# Altium footprint library P2-Adapter_ver1.PcbLib: 42 footprints (part 3 of 3)
Each footprint in its own frame and in the unit in brackets; x right, y up, seen from the top. Pads: shape width x height; smd on the part's side, far side on the other; paste and mask are expansions set on the pad; w line width, h text height; cw(c..) or ccw(c..) is an arc to the next point about the centre after c.
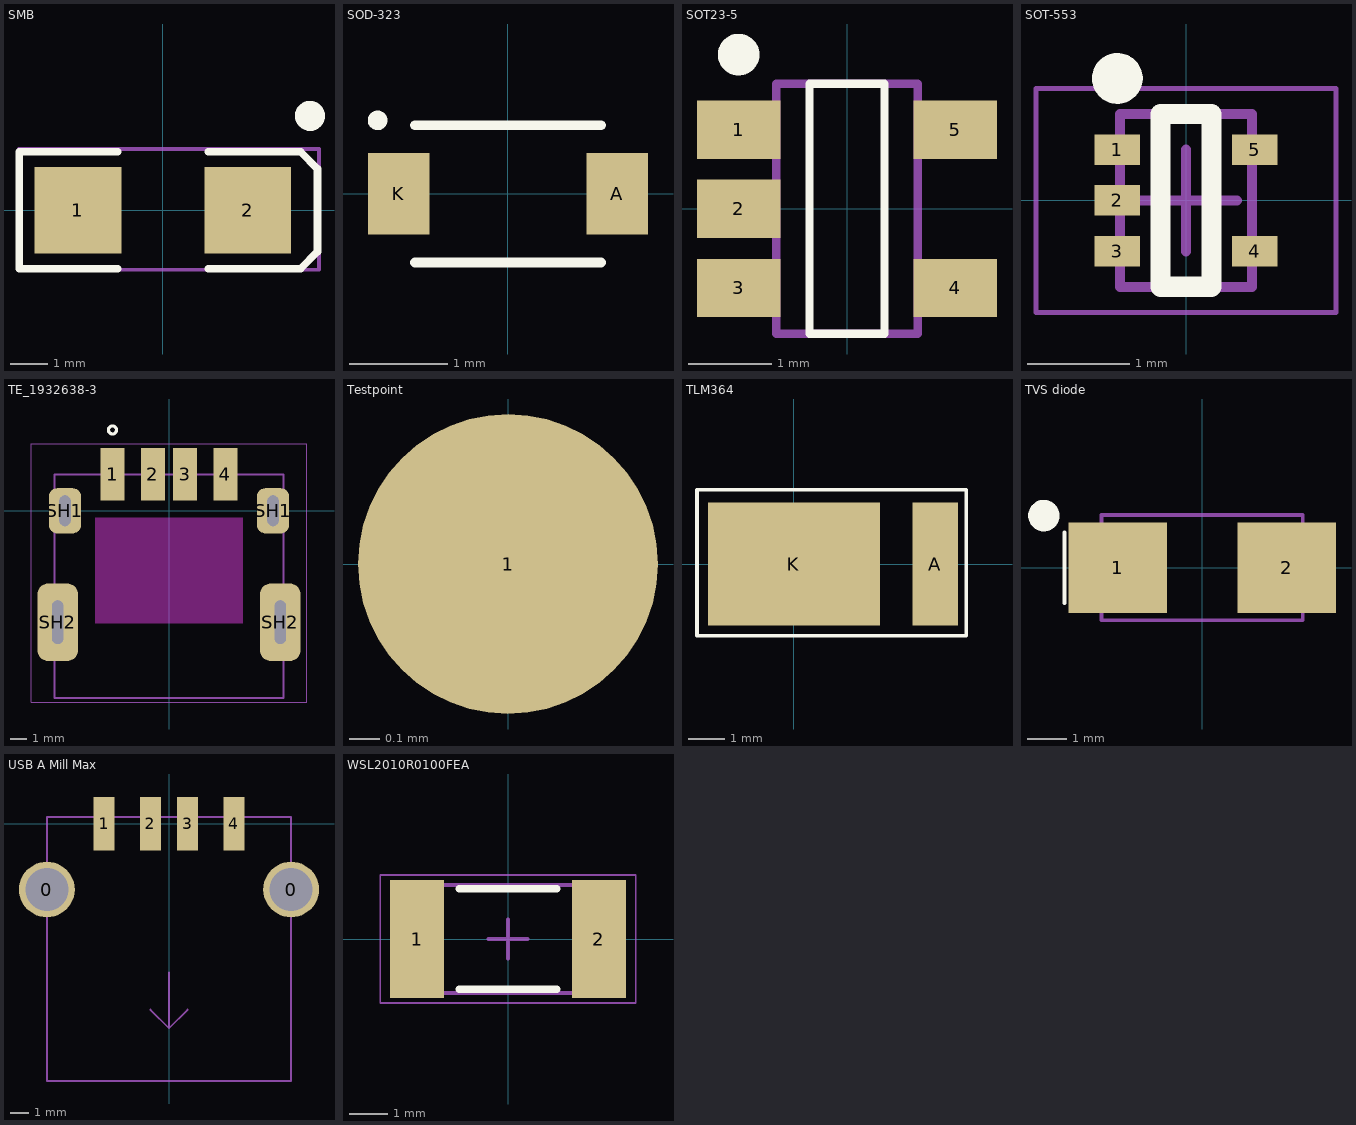
[diagram p2: the footprints below, top view; thin cyan lines are the x and y axes]

## SMB [mm] "DO-214-AA/SMB; 2 C-Bend Leads; Body 5.3 x 3.6 mm, inc. leads (LxW)"
height 2.54
pads (2):
  rect 2.3x2.3 smd: 1(-2.25,0) 2(2.25,0)
Top Overlay:
  circle w0.4: c3.9,2.5 r0.2
  lines w0.2: -1.2,-1.55 -3.8,-1.55 -3.8,1.55 -1.2,1.55 ; 1.2,-1.55 3.65,-1.55 4.1,-1.1 4.1,1.1 3.65,1.55 1.2,1.55
Mechanical 15:
  lines w0.1: -3.81,-1.549 -3.785,-1.575 4.14,-1.575 4.14,1.626 -3.81,1.626 -3.81,-1.549
3D body: height 2.54, standoff 0, extent -3.86,-1.625 4.19,1.676

## SOD-323 [mm]
height 1
pads (2):
  rect 0.63x0.83 smd: A(1.115,0) K(-1.115,0)
Top Overlay:
  circle w0.1: c-1.33,0.75 r0.05
  lines w0.1: -0.95,-0.7 0.95,-0.7 ; -0.95,0.7 0.95,0.7
3D body: height 1, standoff 0, extent -0.9,-0.675 0.9,0.675

## SOT23-5 [mm]
height 1.4
pads (5):
  rect 1x0.7 smd: 1(-1.3,0.95) 2(-1.3,0) 3(-1.3,-0.95) 4(1.3,-0.95) 5(1.3,0.95)
Top Overlay:
  circle w0.25: c-1.3,1.85 r0.125
  lines w0.1: -0.45,-1.5 -0.45,1.5 0.45,1.5 0.45,-1.5 -0.45,-1.5
Mechanical 15:
  lines w0.1: -0.85,-1.5 0.85,-1.5 0.85,1.5 -0.85,1.5 -0.85,-1.5
3D body: height 1.4, standoff 0.15, extent -0.85,-1.5 0.85,1.5

## SOT-553 [mm]
height 0.6
pads (5):
  rect 0.45x0.3 smd: 1(-0.675,0.5) 2(-0.675,0) 3(-0.675,-0.5) 4(0.675,-0.5) 5(0.675,0.5)
Top Overlay:
  circle w0.25: c-0.675,1.2 r0.125
  lines w0.2: -0.25,-0.85 0.25,-0.85 0.25,0.85 -0.25,0.85 -0.25,-0.85
Mechanical 15:
  lines w0.05: -1.475,-1.1 -1.475,1.1 1.475,1.1 1.475,-1.1 -1.475,-1.1
  lines w0.1: -0.5,0 0.5,0 ; 0,-0.5 0,0.5 ; -0.65,-0.85 -0.65,0.85 0.65,0.85 0.65,-0.85 -0.65,-0.85
3D body: height 0.6, standoff 0.05, extent -0.65,-0.85 0.65,0.85

## TE_1932638-3 [mm]
pads (8):
  rect 1.5x3.25 smd: 1(-3.5,2.27) 2(-1,2.27) 3(1,2.27) 4(3.5,2.27)
  rrect50% 2x2.8 hole 0.7 slot 1.9 at 90 deg: SH1(-6.45,0) SH1(6.45,0)
  rrect50% 2.5x4.8 hole 0.7 slot 2.7 at 90 deg: SH2(-6.9,-6.91) SH2(6.9,-6.91)
Top Layer keep-out:
  rectangle: -4.575,-6.975 4.6,-0.425
Top Overlay:
  circle w0.2: c-3.503,5.009 r0.25
Mechanical 15:
  lines w0: -7.25,-7.9 -7.25,-5.9 ; -6.8,-0.6 -6.8,0.6 ; -6.55,-7.9 -6.55,-5.9 ; -6.1,-0.6 -6.1,0.6 ; 6.1,-0.6 6.1,0.6 ; 6.55,-7.9 6.55,-5.9 ; 6.8,-0.6 6.8,0.6 ; 7.25,-7.9 7.25,-5.9
  lines w0.05: -8.55,-11.86 8.55,-11.86 8.55,4.145 -8.55,4.145 -8.55,-11.86
  lines w0.127: -7.1,-9.6 -7.1,-11.61 ; -7.1,-4.24 -7.1,-2.28 ; -4.5,2.24 -7.1,2.24 ; -2.5,2.24 -2,2.24 ; 2,2.24 2.52,2.24 ; 4.48,2.24 7.1,2.24 ; 7.1,-9.59 7.1,-11.61 ; 7.1,-4.22 7.1,-2.29 ; -7.1,-11.61 7.1,-11.61 ; -7.1,-11.61 -7.1,2.24 ; -7.1,-11.61 7.1,-11.61 ; -7.1,2.24 7.1,2.24 ; 7.1,-11.61 7.1,2.24
3D body "c-1932638-3-e-3d.stp": height 7.35, standoff -1.51, extent -7.442,-11.638 7.188,3.302

## Testpoint [mm] "Testpoint"
pads (1):
  round 1 smd: 1(0,0)

## TLM364 [mm]
pads (2):
  rect 1.25x3.4 smd: A(3.9,0)
  rect 4.75x3.4 smd: K(0,0)
Top Overlay:
  lines w0.1: -2.675,-1.975 -2.675,2.05 4.575,2.05 4.75,2.05 4.75,1.875 4.75,-1.975 -2.675,-1.975
3D body: height 1.2, standoff 0, extent -2.587,-1.9 4.66,1.925

## TVS diode [mm]
height 2.25
pads (2):
  rect 2.5x2.3 smd: 1(-2.15,0) 2(2.15,0)
Top Overlay:
  circle w0.4: c-4.025,1.325 r0.2
  lines w0.1: -3.5,-0.9 -3.5,0.9
Mechanical 15:
  lines w0.1: -2.555,-1.335 0,-1.335 2.555,-1.335 2.555,1.335 0,1.335 -2.555,1.335 -2.555,-1.335
3D body: height 2.25, standoff 0, extent -2.555,-1.335 2.555,1.335

## USB A Mill Max [mm] "USB A Mill Max"
height 7
pads (6):
  round 3 hole 2.31: 0(-6.565,-3.545) 0(6.565,-3.545)
  rect 1.12x2.87 smd: 1(-3.49,0) 2(-1,0) 3(1,0) 4(3.49,0)
Mechanical 15:
  lines w0.1: -1,-10 0,-11 ; 0,-8 0,-11 ; 0,-11 1,-10 0,-11 ; -6.565,-13.845 -6.565,-3.545 -6.565,0.345 6.565,0.345 6.565,-3.545 6.565,-13.845 -6.565,-13.845
3D body "c-292303-7-d-3d.stp": height 7.62, standoff -3.65, extent -8.116,-13.91 8.116,1.25

## WSL2010R0100FEA [mm]
height 0.89
pads (2):
  rect 1.4x3.05 smd: 1(-2.35,0) 2(2.35,0)
Top Overlay:
  lines w0.2: -1.25,-1.3 1.25,-1.3 ; -1.25,1.3 1.25,1.3
Mechanical 15:
  lines w0.05: -3.3,-1.65 3.3,-1.65 3.3,1.65 -3.3,1.65 -3.3,-1.65
  lines w0.1: -0.5,0 0.5,0 ; 0,-0.5 0,0.5 ; -2.665,-1.395 2.665,-1.395 2.665,1.395 -2.665,1.395 -2.665,-1.395
3D body "WSL2010R0100FEA.step": height 0.89, standoff 0, extent -2.665,-1.395 2.665,1.395